# Altium footprint library MCB.PcbLib: 31 footprints (part 2 of 2)
Each footprint in its own frame and in the unit in brackets; x right, y up, seen from the top. Pads: shape width x height; smd on the part's side, far side on the other; paste and mask are expansions set on the pad; w line width, h text height; cw(c..) or ccw(c..) is an arc to the next point about the centre after c.
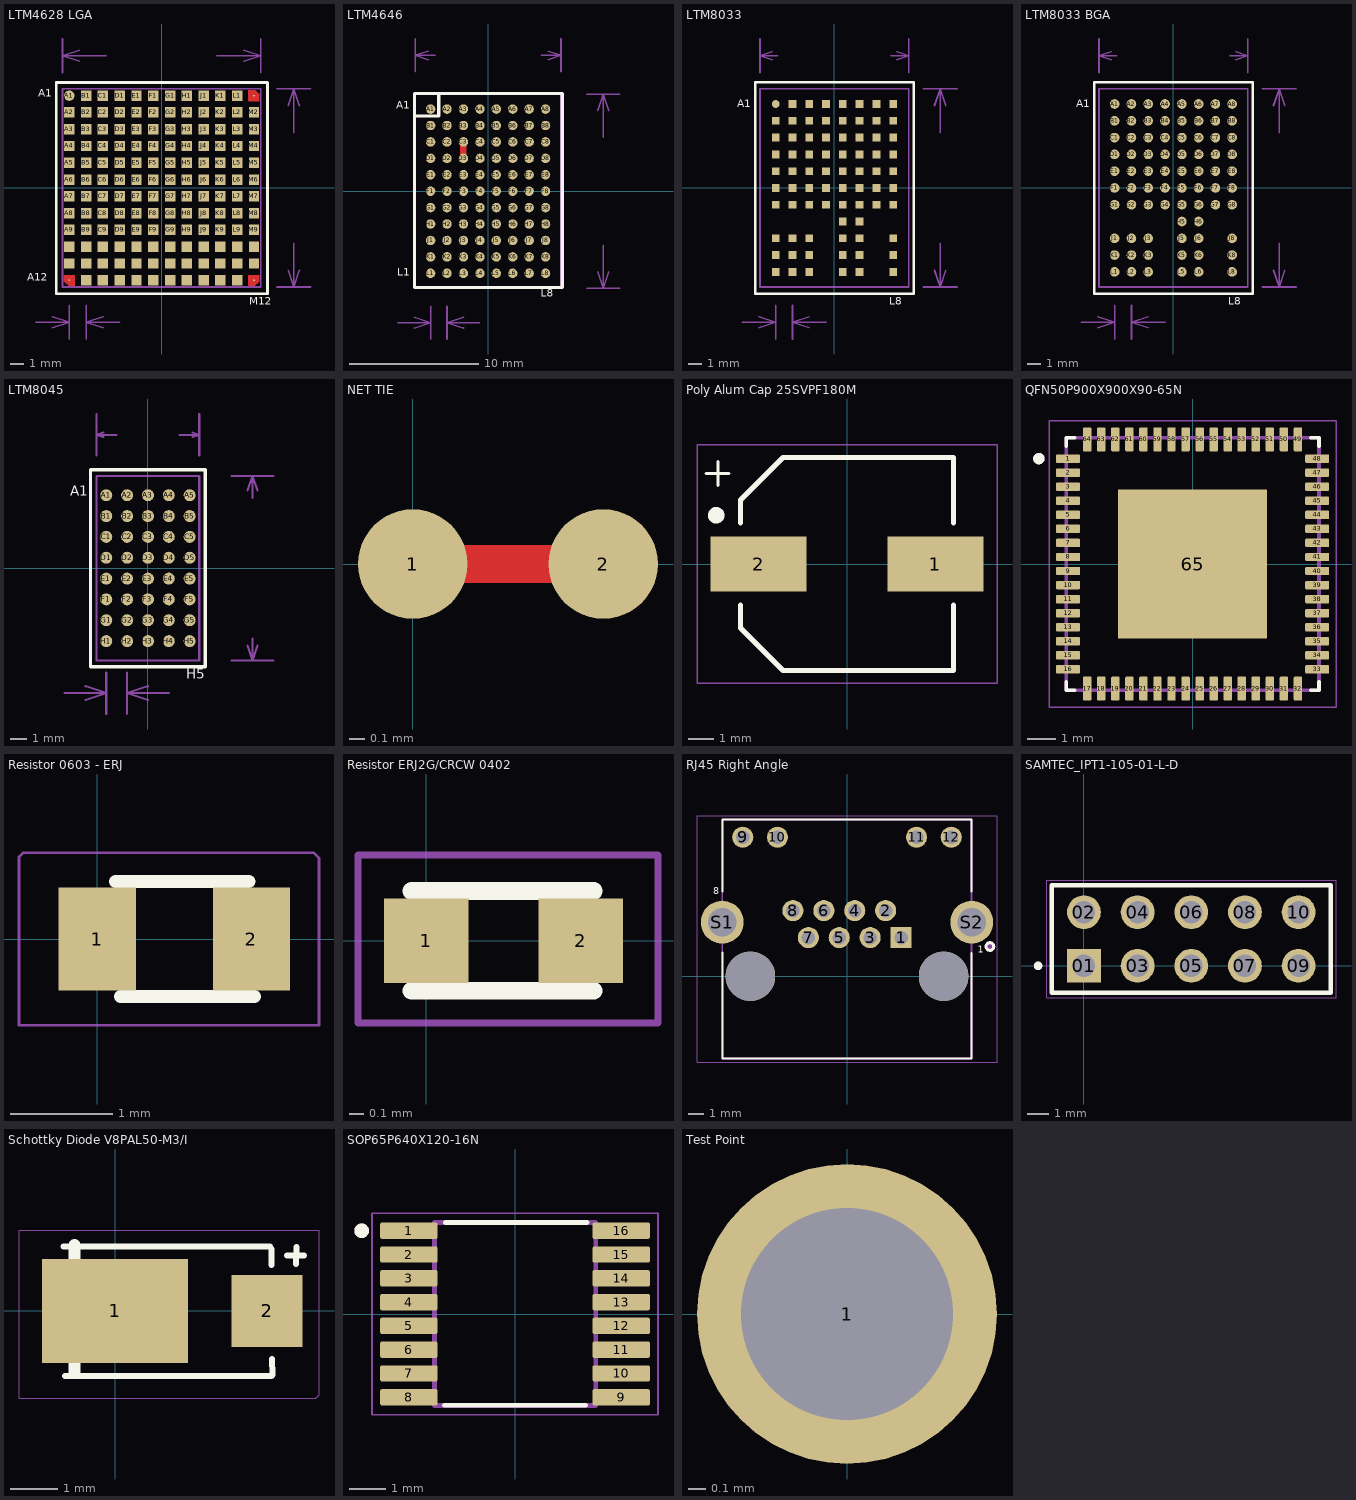
[diagram p1: the footprints below, top view; thin cyan lines are the x and y axes]

## LTM4628 LGA [mil]
pads (144):
  round 31 smd paste-3.5 mask-3: A1(-275,275)
  rect 31x31 smd paste-3.5 mask-3: A2(-275,225) A3(-275,175) A4(-275,125) A5(-275,75) A6(-275,25) A7(-275,-25) A8(-275,-75) A9(-275,-125) A10(-275,-175) A11(-275,-225) B1(-225,275) B2(-225,225) B3(-225,175) B4(-225,125) B5(-225,75) B6(-225,25) B7(-225,-25) B8(-225,-75) B9(-225,-125) B10(-225,-175) B11(-225,-225) B12(-225,-275) C1(-175,275) C2(-175,225) C3(-175,175) C4(-175,125) C5(-175,75) C6(-175,25) C7(-175,-25) C8(-175,-75) C9(-175,-125) C10(-175,-175) C11(-175,-225) C12(-175,-275) D1(-125,275) D2(-125,225) D3(-125,175) D4(-125,125) D5(-125,75) D6(-125,25) D7(-125,-25) D8(-125,-75) D9(-125,-125) D10(-125,-175) D11(-125,-225) D12(-125,-275) E1(-75,275) E2(-75,225) E3(-75,175) E4(-75,125) E5(-75,75) E6(-75,25) E7(-75,-25) E8(-75,-75) E9(-75,-125) E10(-75,-175) E11(-75,-225) E12(-75,-275) F1(-25,275) F2(-25,225) F3(-25,175) F4(-25,125) F5(-25,75) F6(-25,25) F7(-25,-25) F8(-25,-75) F9(-25,-125) F10(-25,-175) F11(-25,-225) F12(-25,-275) G1(25,275) G2(25,225) G3(25,175) G4(25,125) G5(25,75) G6(25,25) G7(25,-25) G8(25,-75) G9(25,-125) G10(25,-175) G11(25,-225) G12(25,-275) H1(75,275) H2(75,225) H3(75,175) H4(75,125) H5(75,75) H6(75,25) H7(75,-25) H8(75,-75) H9(75,-125) H10(75,-175) H11(75,-225) H12(75,-275) J1(125,275) J2(125,225) J3(125,175) J4(125,125) J5(125,75) J6(125,25) J7(125,-25) J8(125,-75) J9(125,-125) J10(125,-175) J11(125,-225) J12(125,-275) K1(175,275) K2(175,225) K3(175,175) K4(175,125) K5(175,75) K6(175,25) K7(175,-25) K8(175,-75) K9(175,-125) K10(175,-175) K11(175,-225) K12(175,-275) L1(225,275) L2(225,225) L3(225,175) L4(225,125) L5(225,75) L6(225,25) L7(225,-25) L8(225,-75) L9(225,-125) L10(225,-175) L11(225,-225) L12(225,-275) M2(275,225) M3(275,175) M4(275,125) M5(275,75) M6(275,25) M7(275,-25) M8(275,-75) M9(275,-125) M10(275,-175) M11(275,-225)
  rect 5x5 smd paste-3.5 mask-3: A12(-275,-275) M1(275,275) M12(275,-275)
Top Layer:
  region: 259.5,290.5 259.5,259.5 290.5,259.5 290.5,277.5 277.5,290.5
  region: 259.5,-259.5 259.5,-290.5 277.5,-290.5 290.5,-277.5 290.5,-259.5
  region: -290.5,-259.5 -259.5,-259.5 -259.5,-290.5 -277.5,-290.5 -290.5,-277.5
  lines w0.39: -290.5,-277.5 -290.5,-259.5 -259.5,-259.5 -259.5,-290.5 -277.5,-290.5 -290.5,-277.5 ; 259.5,-290.5 259.5,-259.5 290.5,-259.5 290.5,-277.5 277.5,-290.5 259.5,-290.5 ; 259.5,259.5 259.5,290.5 277.5,290.5 290.5,277.5 290.5,259.5 259.5,259.5
Top Overlay:
  lines w8: -314.37,-315.55 -314.37,314.37 315.55,314.37 315.55,-315.55 -314.37,-315.55
  text "A12" at -400,-286 h40
  text "A1" at -367,263 h40
  text "M12" at 261,-357 h40
Mechanical 15:
  lines w5: -375,-400 -275,-400 ; -325,-416.67 -275,-400 ; -325,-383.33 -275,-400 ; -295.28,343.7 -295.28,443.7 ; -275,-450 -275,-350 ; -245.28,377.03 -295.28,393.7 ; -245.28,410.37 -295.28,393.7 ; -225,-450 -225,-350 ; -175,-416.67 -225,-400 ; -175,-383.33 -225,-400 ; -164.95,393.7 -295.28,393.7 ; -125,-400 -225,-400 ; 164.95,393.7 295.28,393.7 ; 245.28,377.03 295.28,393.7 ; 245.28,410.37 295.28,393.7 ; 295.28,343.7 295.28,443.7 ; 343.7,-295.28 443.7,-295.28 ; 343.7,295.28 443.7,295.28 ; 377.03,-245.28 393.7,-295.28 ; 377.03,245.28 393.7,295.28 ; 393.7,-164.95 393.7,-295.28 ; 393.7,164.95 393.7,295.28 ; 410.37,-245.28 393.7,-295.28 ; 410.37,245.28 393.7,295.28 ; -295.28,-295.28 295.28,-295.28 295.28,295.28 -295.28,295.28 -295.28,-295.28
  text "15 (mm)" at -154.95,363.71 h50
  text "15 (mm)" at 423.69,-154.95 h50
  text "1.27 (mm)" at -450.77,-519.97 h50
3D body: height 170.08, standoff 0, extent -315,-315 315,315

## LTM4646 [mm]
pads (88):
  round 0.73 smd: A1(-4.445,6.35) A2(-3.175,6.35) A3(-1.905,6.35) A4(-0.635,6.35) A5(0.635,6.35) A6(1.905,6.35) A7(3.175,6.35) A8(4.445,6.35) B1(-4.445,5.08) B2(-3.175,5.08) B3(-1.905,5.08) B4(-0.635,5.08) B5(0.635,5.08) B6(1.905,5.08) B7(3.175,5.08) B8(4.445,5.08) C1(-4.445,3.81) C2(-3.175,3.81) C3(-1.905,3.81) C4(-0.635,3.81) C5(0.635,3.81) C6(1.905,3.81) C7(3.175,3.81) C8(4.445,3.81) D1(-4.445,2.54) D2(-3.175,2.54) D3(-1.905,2.54) D4(-0.635,2.54) D5(0.635,2.54) D6(1.905,2.54) D7(3.175,2.54) D8(4.445,2.54) E1(-4.445,1.27) E2(-3.175,1.27) E3(-1.905,1.27) E4(-0.635,1.27) E5(0.635,1.27) E6(1.905,1.27) E7(3.175,1.27) E8(4.445,1.27) F1(-4.445,0) F2(-3.175,0) F3(-1.905,0) F4(-0.635,0) F5(0.635,0) F6(1.905,0) F7(3.175,0) F8(4.445,0) G1(-4.445,-1.27) G2(-3.175,-1.27) G3(-1.905,-1.27) G4(-0.635,-1.27) G5(0.635,-1.27) G6(1.905,-1.27) G7(3.175,-1.27) G8(4.445,-1.27) H1(-4.445,-2.54) H2(-3.175,-2.54) H3(-1.905,-2.54) H4(-0.635,-2.54) H5(0.635,-2.54) H6(1.905,-2.54) H7(3.175,-2.54) H8(4.445,-2.54) J1(-4.445,-3.81) J2(-3.175,-3.81) J3(-1.905,-3.81) J4(-0.635,-3.81) J5(0.635,-3.81) J6(1.905,-3.81) J7(3.175,-3.81) J8(4.445,-3.81) K1(-4.445,-5.08) K2(-3.175,-5.08) K3(-1.905,-5.08) K4(-0.635,-5.08) K5(0.635,-5.08) K6(1.905,-5.08) K7(3.175,-5.08) K8(4.445,-5.08) L1(-4.445,-6.35) L2(-3.175,-6.35) L3(-1.905,-6.35) L4(-0.635,-6.35) L5(0.635,-6.35) L6(1.905,-6.35) L7(3.175,-6.35) L8(4.445,-6.35)
Top Layer:
  lines w0.508: -1.905,2.54 -1.905,3.81
Top Overlay:
  lines w0.254: -5.69,5.816 -3.81,5.816 -3.81,7.544 ; -5.69,-7.449 -5.69,7.551 5.74,7.551 5.74,-7.449 -5.69,-7.449
  text "L1" at -7.01,-6.731 h1.02
  text "A1" at -7.087,6.172 h1.02
  text "L8" at 4.089,-8.371 h1.02
Mechanical 16:
  lines w0.127: -6.985,-10.16 -4.445,-10.16 ; -5.715,-10.583 -4.445,-10.16 ; -5.715,-9.737 -4.445,-10.16 ; -5.643,9.23 -5.643,11.77 ; -4.643,10.167 -5.643,10.5 ; -4.643,10.833 -5.643,10.5 ; -4.445,-11.43 -4.445,-8.89 ; -4.106,10.5 -5.643,10.5 ; -3.175,-11.43 -3.175,-8.89 ; -1.905,-10.583 -3.175,-10.16 ; -1.905,-9.737 -3.175,-10.16 ; -0.635,-10.16 -3.175,-10.16 ; 4.106,10.5 5.643,10.5 ; 4.643,10.167 5.643,10.5 ; 4.643,10.833 5.643,10.5 ; 5.643,9.23 5.643,11.77 ; 7.627,-7.5 10.167,-7.5 ; 7.627,7.5 10.167,7.5 ; 8.474,-6.23 8.897,-7.5 ; 8.474,6.23 8.897,7.5 ; 8.897,-4.19 8.897,-7.5 ; 8.897,4.19 8.897,7.5 ; 9.32,-6.23 8.897,-7.5 ; 9.32,6.23 8.897,7.5 ; -5.625,-7.5 -5.625,7.5 5.625,7.5 5.625,-7.5 -5.625,-7.5
  text "11.25 (mm)" at -3.429,10.16 h0.76
  text "15 (mm)" at 9.659,-3.936 h1.27
  text "1.27 (mm)" at -8.91,-13.207 h1.27
3D body: height 5.01, standoff 0, extent -5.588,-7.493 5.588,7.493

## LTM8033 [mm]
pads (76):
  round 0.59 smd: A1(-4.445,6.35)
  rect 0.59x0.59 smd: A2(-3.175,6.35) A3(-1.905,6.35) A4(-0.635,6.35) A5(0.635,6.35) A6(1.905,6.35) A7(3.175,6.35) A8(4.445,6.35) B1(-4.445,5.08) B2(-3.175,5.08) B3(-1.905,5.08) B4(-0.635,5.08) B5(0.635,5.08) B6(1.905,5.08) B7(3.175,5.08) B8(4.445,5.08) C1(-4.445,3.81) C2(-3.175,3.81) C3(-1.905,3.81) C4(-0.635,3.81) C5(0.635,3.81) C6(1.905,3.81) C7(3.175,3.81) C8(4.445,3.81) D1(-4.445,2.54) D2(-3.175,2.54) D3(-1.905,2.54) D4(-0.635,2.54) D5(0.635,2.54) D6(1.905,2.54) D7(3.175,2.54) D8(4.445,2.54) E1(-4.445,1.27) E2(-3.175,1.27) E3(-1.905,1.27) E4(-0.635,1.27) E5(0.635,1.27) E6(1.905,1.27) E7(3.175,1.27) E8(4.445,1.27) F1(-4.445,0) F2(-3.175,0) F3(-1.905,0) F4(-0.635,0) F5(0.635,0) F6(1.905,0) F7(3.175,0) F8(4.445,0) G1(-4.445,-1.27) G2(-3.175,-1.27) G3(-1.905,-1.27) G4(-0.635,-1.27) G5(0.635,-1.27) G6(1.905,-1.27) G7(3.175,-1.27) G8(4.445,-1.27) H5(0.635,-2.54) H6(1.905,-2.54) J1(-4.445,-3.81) J2(-3.175,-3.81) J3(-1.905,-3.81) J5(0.635,-3.81) J6(1.905,-3.81) J8(4.445,-3.81) K1(-4.445,-5.08) K2(-3.175,-5.08) K3(-1.905,-5.08) K5(0.635,-5.08) K6(1.905,-5.08) K8(4.445,-5.08) L1(-4.445,-6.35) L2(-3.175,-6.35) L3(-1.905,-6.35) L5(0.635,-6.35) L6(1.905,-6.35) L8(4.445,-6.35)
Top Overlay:
  lines w0.203: -6,-8 -6,8 6,8 6,-8 -6,-8
  text "A1" at -7.366,5.893 h1.02
  text "L8" at 4.14,-9.057 h1.02
Mechanical 15:
  lines w0.127: -6.985,-10.16 -4.445,-10.16 ; -5.715,-10.583 -4.445,-10.16 ; -5.715,-9.737 -4.445,-10.16 ; -5.625,8.73 -5.625,11.27 ; -4.725,9.7 -5.625,10 ; -4.725,10.3 -5.625,10 ; -4.445,-11.43 -4.445,-8.89 ; -4.28,10 -5.625,10 ; -3.175,-11.43 -3.175,-8.89 ; -1.905,-10.583 -3.175,-10.16 ; -1.905,-9.737 -3.175,-10.16 ; -0.635,-10.16 -3.175,-10.16 ; 4.28,10 5.625,10 ; 4.725,9.7 5.625,10 ; 4.725,10.3 5.625,10 ; 5.625,8.73 5.625,11.27 ; 6.73,-7.5 9.27,-7.5 ; 6.73,7.5 9.27,7.5 ; 7.577,-6.23 8,-7.5 ; 7.577,6.23 8,7.5 ; 8,-4.19 8,-7.5 ; 8,4.19 8,7.5 ; 8.423,-6.23 8,-7.5 ; 8.423,6.23 8,7.5 ; -5.625,-7.5 -5.625,7.5 5.625,7.5 5.625,-7.5 -5.625,-7.5
  text "11.25 (mm)" at -4.026,9.423 h0.9
  text "15 (mm)" at 8.762,-3.936 h1.27
  text "1.27 (mm)" at -8.91,-13.207 h1.27
3D body: height 4.35, standoff 0, extent -5.588,-7.493 5.588,7.493

## LTM8033 BGA [mm]
pads (76):
  round 0.73 smd: A1(-4.445,6.35) A2(-3.175,6.35) A3(-1.905,6.35) A4(-0.635,6.35) A5(0.635,6.35) A6(1.905,6.35) A7(3.175,6.35) A8(4.445,6.35) B1(-4.445,5.08) B2(-3.175,5.08) B3(-1.905,5.08) B4(-0.635,5.08) B5(0.635,5.08) B6(1.905,5.08) B7(3.175,5.08) B8(4.445,5.08) C1(-4.445,3.81) C2(-3.175,3.81) C3(-1.905,3.81) C4(-0.635,3.81) C5(0.635,3.81) C6(1.905,3.81) C7(3.175,3.81) C8(4.445,3.81) D1(-4.445,2.54) D2(-3.175,2.54) D3(-1.905,2.54) D4(-0.635,2.54) D5(0.635,2.54) D6(1.905,2.54) D7(3.175,2.54) D8(4.445,2.54) E1(-4.445,1.27) E2(-3.175,1.27) E3(-1.905,1.27) E4(-0.635,1.27) E5(0.635,1.27) E6(1.905,1.27) E7(3.175,1.27) E8(4.445,1.27) F1(-4.445,0) F2(-3.175,0) F3(-1.905,0) F4(-0.635,0) F5(0.635,0) F6(1.905,0) F7(3.175,0) F8(4.445,0) G1(-4.445,-1.27) G2(-3.175,-1.27) G3(-1.905,-1.27) G4(-0.635,-1.27) G5(0.635,-1.27) G6(1.905,-1.27) G7(3.175,-1.27) G8(4.445,-1.27) H5(0.635,-2.54) H6(1.905,-2.54) J1(-4.445,-3.81) J2(-3.175,-3.81) J3(-1.905,-3.81) J5(0.635,-3.81) J6(1.905,-3.81) J8(4.445,-3.81) K1(-4.445,-5.08) K2(-3.175,-5.08) K3(-1.905,-5.08) K5(0.635,-5.08) K6(1.905,-5.08) K8(4.445,-5.08) L1(-4.445,-6.35) L2(-3.175,-6.35) L3(-1.905,-6.35) L5(0.635,-6.35) L6(1.905,-6.35) L8(4.445,-6.35)
Top Overlay:
  lines w0.203: -6,-8 6,-8 6,8 -6,8 -6,-8
  text "L8" at 4.14,-9.057 h1.02
  text "A1" at -7.366,5.893 h1.02
Mechanical 15:
  lines w0.127: -6.985,-10.16 -4.445,-10.16 ; -5.715,-10.583 -4.445,-10.16 ; -5.715,-9.737 -4.445,-10.16 ; -5.625,8.73 -5.625,11.27 ; -4.725,9.7 -5.625,10 ; -4.725,10.3 -5.625,10 ; -4.445,-11.43 -4.445,-8.89 ; -4.28,10 -5.625,10 ; -3.175,-11.43 -3.175,-8.89 ; -1.905,-10.583 -3.175,-10.16 ; -1.905,-9.737 -3.175,-10.16 ; -0.635,-10.16 -3.175,-10.16 ; 4.28,10 5.625,10 ; 4.725,9.7 5.625,10 ; 4.725,10.3 5.625,10 ; 5.625,8.73 5.625,11.27 ; 6.73,-7.5 9.27,-7.5 ; 6.73,7.5 9.27,7.5 ; 7.577,-6.23 8,-7.5 ; 7.577,6.23 8,7.5 ; 8,-4.19 8,-7.5 ; 8,4.19 8,7.5 ; 8.423,-6.23 8,-7.5 ; 8.423,6.23 8,7.5 ; -5.625,-7.5 5.625,-7.5 5.625,7.5 -5.625,7.5 -5.625,-7.5
  text "1.27 (mm)" at -8.91,-13.207 h1.27
  text "15 (mm)" at 8.762,-3.936 h1.27
  text "11.25 (mm)" at -4.026,9.423 h0.9
3D body: height 4.92, standoff 0, extent -5.588,-7.493 5.588,7.493

## LTM8045 [mm] "DCDC Converter"
pads (40):
  round 0.73 smd: A1(-2.54,4.445) A2(-1.27,4.445) A3(0,4.445) A4(1.27,4.445) A5(2.54,4.445) B1(-2.54,3.175) B2(-1.27,3.175) B3(0,3.175) B4(1.27,3.175) B5(2.54,3.175) C1(-2.54,1.905) C2(-1.27,1.905) C3(0,1.905) C4(1.27,1.905) C5(2.54,1.905) D1(-2.54,0.635) D2(-1.27,0.635) D3(0,0.635) D4(1.27,0.635) D5(2.54,0.635) E1(-2.54,-0.635) E2(-1.27,-0.635) E3(0,-0.635) E4(1.27,-0.635) E5(2.54,-0.635) F1(-2.54,-1.905) F2(-1.27,-1.905) F3(0,-1.905) F4(1.27,-1.905) F5(2.54,-1.905) G1(-2.54,-3.175) G2(-1.27,-3.175) G3(0,-3.175) G4(1.27,-3.175) G5(2.54,-3.175) H1(-2.54,-4.445) H2(-1.27,-4.445) H3(0,-4.445) H4(1.27,-4.445) H5(2.54,-4.445)
Top Overlay:
  lines w0.203: -3.5,-6 3.5,-6 3.5,6 -3.5,6 -3.5,-6
  text "A1" at -4.75,4.191 h1.02
  text "H5" at 2.337,-6.949 h1.02
Mechanical 15:
  lines w0.127: -5.08,-7.62 -2.54,-7.62 ; -3.81,-8.043 -2.54,-7.62 ; -3.81,-7.197 -2.54,-7.62 ; -3.125,6.855 -3.125,9.395 ; -2.725,7.992 -3.125,8.125 ; -2.725,8.258 -3.125,8.125 ; -2.54,-8.89 -2.54,-6.35 ; -1.933,8.125 -3.125,8.125 ; -1.27,-8.89 -1.27,-6.35 ; 0,-8.043 -1.27,-7.62 ; 0,-7.197 -1.27,-7.62 ; 1.27,-7.62 -1.27,-7.62 ; 1.933,8.125 3.125,8.125 ; 2.725,7.992 3.125,8.125 ; 2.725,8.258 3.125,8.125 ; 3.125,6.855 3.125,9.395 ; 5.105,-5.625 7.645,-5.625 ; 5.105,5.625 7.645,5.625 ; 6.075,-4.725 6.375,-5.625 ; 6.075,4.725 6.375,5.625 ; 6.375,-4.28 6.375,-5.625 ; 6.375,4.28 6.375,5.625 ; 6.675,-4.725 6.375,-5.625 ; 6.675,4.725 6.375,5.625 ; -3.125,-5.625 -3.125,5.625 3.125,5.625 3.125,-5.625 -3.125,-5.625
  text "1.27 (mm)" at -7.005,-10.667 h1.27
  text "11.25 (mm)" at 6.952,-4.026 h0.9
  text "6.25 (mm)" at -1.679,7.845 h0.4
3D body: height 4.92, standoff 0, extent -3.353,-5.791 3.385,5.854

## NET TIE [mm]
pads (2):
  round 0.73 smd: 1(0,0) 2(1.27,0)
Top Layer:
  lines w0.254: 0,0 1.27,0

## Poly Alum Cap 25SVPF180M [mm]
pads (2):
  rect 3.75x2.15 smd: 1(3.45,0) 2(-3.45,0)
Top Overlay:
  circle w0.2: c-5.1,1.9 r0.224
  region: -4.9,1.703 -5.31,1.703 -5.31,2.1 -4.9,2.1
  lines w0.127: -5.486,3.531 -4.597,3.531 ; -5.029,3.073 -5.029,3.988
  lines w0.2: -4.15,-1.6 -4.15,-2.5 -2.5,-4.15 4.15,-4.15 4.15,-1.6 ; -4.15,1.6 -4.15,2.5 -2.5,4.15 4.15,4.15 4.15,1.6
Mechanical 15:
  lines w0.05: -5.85,-4.65 5.85,-4.65 5.85,4.65 -5.85,4.65 -5.85,-4.65
3D body: height 12, standoff 0, extent -4,-3.997 4,3.997

## QFN50P900X900X90-65N [mm]
pads (65):
  rrect25% 0.85x0.3 smd: 1(-4.435,3.75) 2(-4.435,3.25) 3(-4.435,2.75) 4(-4.435,2.25) 5(-4.435,1.75) 6(-4.435,1.25) 7(-4.435,0.75) 8(-4.435,0.25) 9(-4.435,-0.25) 10(-4.435,-0.75) 11(-4.435,-1.25) 12(-4.435,-1.75) 13(-4.435,-2.25) 14(-4.435,-2.75) 15(-4.435,-3.25) 16(-4.435,-3.75) 33(4.435,-3.75) 34(4.435,-3.25) 35(4.435,-2.75) 36(4.435,-2.25) 37(4.435,-1.75) 38(4.435,-1.25) 39(4.435,-0.75) 40(4.435,-0.25) 41(4.435,0.25) 42(4.435,0.75) 43(4.435,1.25) 44(4.435,1.75) 45(4.435,2.25) 46(4.435,2.75) 47(4.435,3.25) 48(4.435,3.75)
  rrect25% 0.3x0.85 smd: 17(-3.75,-4.435) 18(-3.25,-4.435) 19(-2.75,-4.435) 20(-2.25,-4.435) 21(-1.75,-4.435) 22(-1.25,-4.435) 23(-0.75,-4.435) 24(-0.25,-4.435) 25(0.25,-4.435) 26(0.75,-4.435) 27(1.25,-4.435) 28(1.75,-4.435) 29(2.25,-4.435) 30(2.75,-4.435) 31(3.25,-4.435) 32(3.75,-4.435) 49(3.75,4.435) 50(3.25,4.435) 51(2.75,4.435) 52(2.25,4.435) 53(1.75,4.435) 54(1.25,4.435) 55(0.75,4.435) 56(0.25,4.435) 57(-0.25,4.435) 58(-0.75,4.435) 59(-1.25,4.435) 60(-1.75,4.435) 61(-2.25,4.435) 62(-2.75,4.435) 63(-3.25,4.435) 64(-3.75,4.435)
  rect 5.3x5.3 smd paste-4: 65(0,0)
Top Overlay:
  circle w0.2: c-5.475,3.75 r0.1
  lines w0.127: -4.5,-4.2 -4.5,-4.5 -4.2,-4.5 ; -4.5,4.2 -4.5,4.5 -4.2,4.5 ; 4.2,-4.5 4.5,-4.5 4.5,-4.2 ; 4.2,4.5 4.5,4.5 4.5,4.2
Top Paste:
  region: 2.12,-2.12 0.48,-2.12 0.48,-0.48 2.12,-0.48
  region: -0.48,-2.12 -2.12,-2.12 -2.12,-0.48 -0.48,-0.48
  region: 2.12,0.48 0.48,0.48 0.48,2.12 2.12,2.12
  region: -0.48,0.48 -2.12,0.48 -2.12,2.12 -0.48,2.12
Mechanical 13:
  circle w0.2: c-5.475,3.75 r0.1
  lines w0.127: -4.5,-4.5 -4.5,4.5 4.5,4.5 4.5,-4.5 -4.5,-4.5
Mechanical 15:
  lines w0.05: -5.105,-5.105 -5.105,5.105 5.105,5.105 5.105,-5.105 -5.105,-5.105
3D body: height 6.35, standoff -9.96, extent -2.94,3.81 -2.91,3.82
3D body: height 1.1, standoff 0, extent -4.52,-4.49 4.5,4.52

## Resistor 0603 - ERJ [mm]
pads (2):
  rect 0.75x1 smd: 1(0,0) 2(1.5,0)
Top Overlay:
  lines w0.127: 0.178,0.559 1.478,0.559 ; 0.229,-0.559 1.529,-0.559
Mechanical 16:
  lines w0.025: -0.762,-0.838 2.159,-0.838 2.159,0.787 2.108,0.838 -0.483,0.838 -0.724,0.838 -0.762,0.8 -0.762,-0.838
3D body: height 0.55, standoff 0, extent 0.001,-0.4 1.6,0.4

## Resistor ERJ2G/CRCW 0402 [mm]
pads (2):
  rect 0.6x0.6 smd: 1(0,0) 2(1.1,0)
Top Overlay:
  lines w0.127: -0.106,-0.356 1.194,-0.356 ; -0.106,0.356 1.194,0.356
Mechanical 16:
  lines w0.05: -0.486,-0.584 -0.486,0.61 ; -0.483,-0.584 1.651,-0.584 1.651,0.61 -0.483,0.61
3D body: height 0.4, standoff 0, extent 0.001,-0.25 1,0.25

## RJ45 Right Angle [mil]
pads (16):
  rect 54.65x54.65 hole 35: 1(140,100)
  round 54.65 hole 35: 2(100,170) 3(60,100) 4(20,170) 5(-20,100) 6(-60,170) 7(-100,100) 8(-140,170) 9(-270,360) 10(-180,360) 11(180,360) 12(270,360)
  round 111.02 hole 74.02: S1(-323,140) S2(323,140)
  round 127.95 hole 127.95 unplated: ""(-250,0) ""(250,0)
Top Overlay:
  circle w7.87: c370,77 r10
  lines w5: -322.83,62.2 -322.83,-212.6 322.83,-212.6 322.83,60.24 ; -322.83,219.29 -322.83,405.51 322.83,405.51 322.83,219.29
  text "8" at -346,205.31 h30
  text "1" at 339,54 h30
Mechanical 13:
  circle w7.87: c371,77 r3.94
  lines w5: -323,-212.6 322.83,-212.6 322.83,405.51 -323,405.51 -323,-212.6
Mechanical 15:
  lines w1.97: -388.39,-222.44 388.39,-222.44 388.39,415.35 -388.39,415.35 -388.39,-222.44
3D body: height 600, standoff 0, extent -322.83,-212.6 322.83,405.51

## SAMTEC_IPT1-105-01-L-D [mil]
pads (10):
  rect 63x63 hole 42: 01(0,0)
  round 63 hole 42: 02(0,100) 03(100,0) 04(100,100) 05(200,0) 06(200,100) 07(300,0) 08(300,100) 09(400,0) 10(400,100)
Top Overlay:
  circle w7.87: c-85.43,0 r3.94
  lines w7.87: -59.84,-50 459.84,-50 459.84,150 -59.84,150 -59.84,-50
Mechanical 13:
  circle w7.87: c-85.43,0 r3.94
  lines w3.94: -59.84,-50 459.84,-50 459.84,150 -59.84,150 -59.84,-50
Mechanical 15:
  lines w1.97: -69.69,-59.84 469.69,-59.84 469.69,159.84 -69.69,159.84 -69.69,-59.84
3D body: height 250, standoff 0, extent -56,-46.75 459.03,152.25
3D body: height 85, standoff 0, extent -12.89,-12.97 13,12.98
3D body: height 85, standoff 0, extent 88.11,-13.97 114.01,11.98
3D body: height 85, standoff 0, extent 188.11,-13.97 214.01,11.98
3D body: height 85, standoff 0, extent 288.11,-13.97 314.01,11.98
3D body: height 85, standoff 0, extent 388.11,-13.97 414.01,11.98
3D body: height 85, standoff 0, extent 388.11,86.03 414.01,111.98
3D body: height 85, standoff 0, extent 288.11,86.03 314.01,111.98
3D body: height 85, standoff 0, extent 188.11,86.03 214.01,111.98
3D body: height 85, standoff 0, extent 88.11,86.03 114.01,111.98
3D body: height 85, standoff 0, extent -11.89,86.03 14.01,111.98

## Schottky Diode V8PAL50-M3/I [mm]
pads (2):
  rect 3.1x2.2 smd: 1(0,0)
  rect 1.5x1.52 smd: 2(3.22,0)
Top Overlay:
  lines w0.127: -1.09,1.36 3.28,1.36 ; -1.06,-1.38 3.31,-1.38 ; 3.308,1.313 3.31,0.97 ; 3.327,-1.014 3.33,-1.357 ; 3.64,1.17 3.997,1.168 ; 3.835,0.993 3.837,1.35
  lines w0.254: -0.857,-1.309 -0.857,1.394
Mechanical 16:
  lines w0.025: -2.032,-1.844 -2.032,-0.508 -2.032,1.712 4.318,1.712 4.318,0.835 4.318,-0.849 4.318,-1.778 4.252,-1.844 -2.032,-1.844
3D body: height 1, standoff 0, extent -0.984,-1.38 3.355,1.35

## SOP65P640X120-16N [mm]
pads (16):
  rrect25% 1.57x0.45 smd: 1(-2.9,2.275) 2(-2.9,1.625) 3(-2.9,0.975) 4(-2.9,0.325) 5(-2.9,-0.325) 6(-2.9,-0.975) 7(-2.9,-1.625) 8(-2.9,-2.275) 9(2.9,-2.275) 10(2.9,-1.625) 11(2.9,-0.975) 12(2.9,-0.325) 13(2.9,0.325) 14(2.9,0.975) 15(2.9,1.625) 16(2.9,2.275)
Top Overlay:
  circle w0.2: c-4.19,2.275 r0.1
  lines w0.127: -1.93,-2.49 1.93,-2.49 ; -1.9,2.5 1.97,2.5
Mechanical 13:
  circle w0.2: c-4.19,2.275 r0.1
  lines w0.127: -2.2,-2.5 -2.2,2.5 2.2,2.5 2.2,-2.5 -2.2,-2.5
Mechanical 15:
  lines w0.05: -3.905,-2.75 -3.905,2.75 3.905,2.75 3.905,-2.75 -3.905,-2.75
3D body: height 1.2, standoff 0, extent -2.2,-2.5 2.2,2.5

## Test Point [mil]
pads (1):
  round 68 hole 48: 1(0,0)